# Altium schematic symbol library DRV8305NPHPR.SchLib: 1 symbol
Pins are listed as number, name and electrical type; pins without a type are passive.

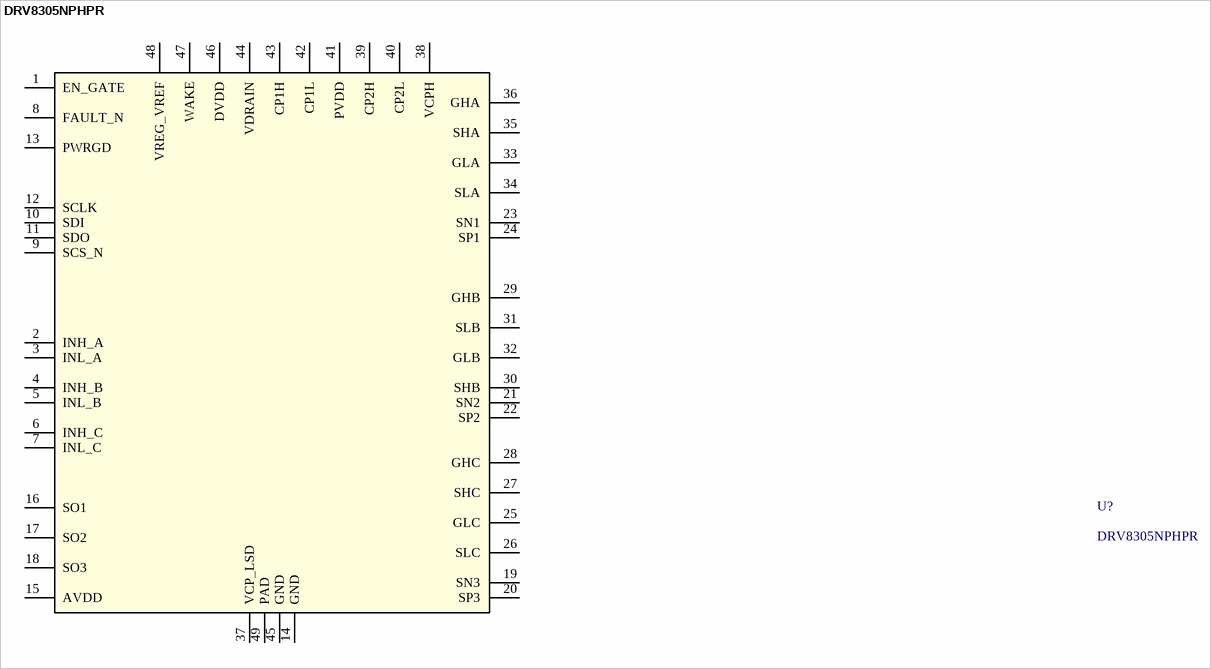
[diagram p0: symbol DRV8305NPHPR]

## DRV8305NPHPR
designator U?
45-V max 3-phase smart gate driver with current shunt amplifiers & SPI 48-HTQFP -40 to 125; Manufacturer_Name: Texas Instruments; PartNumber: DRV83053PHPR; Alternate_PartNumber: DRV83053PHP; CompType: IC; TYPE: TYPE; RefDes: RefDes; Copyright: Copyright (C) 2025 Ultra Librarian. All rights reserved.; Manufacturer_Part_Number: DRV8305NPHPR; Application_BuildNumber: *; PackageReference: PHP0048G; MountType: SMT; RoHS: Y; Manufacturer: Texas Instruments
footprint PHP0048G
pins: 1 EN_GATE, 2 INH_A, 3 INL_A, 4 INH_B, 5 INL_B, 6 INH_C, 7 INL_C, 8 FAULT_N, 9 SCS_N, 10 SDI, 11 SDO, 12 SCLK, 13 PWRGD, 14 GND, 15 AVDD, 16 SO1, 17 SO2, 18 SO3, 19 SN3, 20 SP3, 21 SN2, 22 SP2, 23 SN1, 24 SP1, 25 GLC, 26 SLC, 27 SHC, 28 GHC, 29 GHB, 30 SHB, 31 SLB, 32 GLB, 33 GLA, 34 SLA, 35 SHA, 36 GHA, 37 VCP_LSD, 38 VCPH, 39 CP2H, 40 CP2L, 41 PVDD, 42 CP1L, 43 CP1H, 44 VDRAIN, 45 GND, 46 DVDD, 47 WAKE, 48 VREG_VREF, 49 PAD